# EAGLE library part NOKIA_5110_MODUL (library lph-7366)
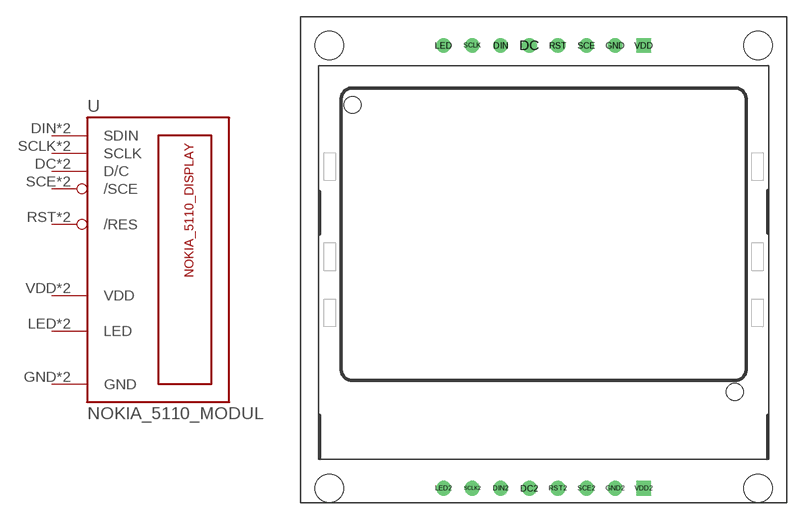
[diagram p1: symbol with the pads of CHINA_N5110; footprint CHINA_N5110]

Designator prefix -

## NOKIA_5110_MODUL  [CHINA_N5110]
DC  D/C  in
DC2  D/C  in
DIN  SDIN  in
DIN2  SDIN  in
GND  GND  pwr
GND2  GND  pwr
LED  LED  pwr
LED2  LED  pwr
RST  /RES  in
RST2  /RES  in
SCE  /SCE  in
SCE2  /SCE  in
SCLK  SCLK  in
SCLK2  SCLK  in
VDD  VDD  pwr
VDD2  VDD  pwr

## Footprint CHINA_N5110 (pad centres in mm)
Package für das Display, das auf einem Trägerboard montiert ist
drill 0.8: DC -1.27,19.05; DC2 -1.27,-20.32; DIN -3.81,19.05; DIN2 -3.81,-20.32; GND 6.35,19.05; GND2 6.35,-20.32; LED -8.89,19.05; LED2 -8.89,-20.32; RST 1.27,19.05; RST2 1.27,-20.32; SCE 3.81,19.05; SCE2 3.81,-20.32; SCLK -6.35,19.05; SCLK2 -6.35,-20.32
drill 0.8 square: VDD 8.89,19.05; VDD2 8.89,-20.32
hole 1.5 at 17,-11.73
hole 1.5 at -17,13.77
hole 2.5 at -19.05,-20.32
hole 2.5 at 19.05,19.05
hole 2.5 at 19.05,-20.32
hole 2.5 at -19.05,19.05